# EAGLE library part IP4220CZ6 (library ic)
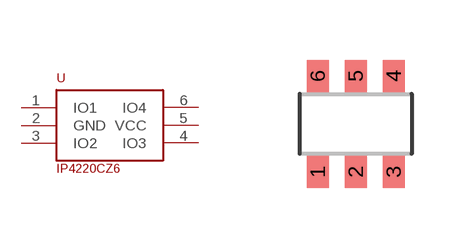
[diagram p3: symbol with the pads of SOT457R_PHILIPS; footprint SOT457R_PHILIPS]

Designator prefix -

## IP4220CZ6  [SOT457R_PHILIPS]
1  IO1
2  GND
3  IO2
4  IO3
5  VCC
6  IO4

## Footprint SOT457R_PHILIPS (pad centres in mm)
Small Outline Transistor; 6 leads SOT457 (SC-74) FOOTPRINT (REFLOW SOLDERING) Philips Semiconductors, sot457-(sc-74)-reflow-wave.pdf
smd 0.55 x 0.8: 1 -0.95,-1.2; 2 0,-1.2; 3 0.95,-1.2; 4 0.95,1.2; 5 0,1.2; 6 -0.95,1.2